# EAGLE library part EDSTLZ-9 (library con-ost)
ON-SHORE
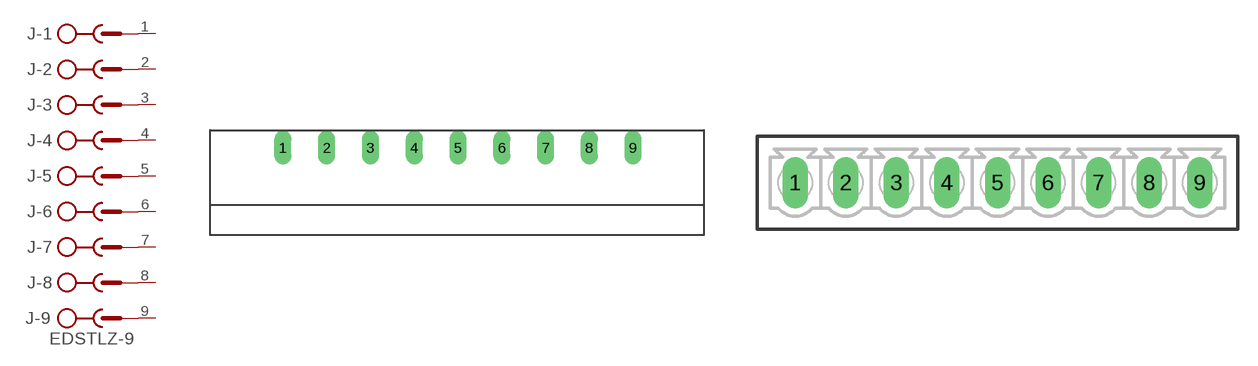
[diagram p3: symbol with the pads of 951-9; footprints 951-9, 1555-9]

Designator prefix J; gates -1=SK -2=SK -3=SK -4=SK -5=SK -6=SK -7=SK -8=SK -9=SKV

## EDSTLZ-9-951  [951-9]
1  -1:SK  pas
2  -2:SK  pas
3  -3:SK  pas
4  -4:SK  pas
5  -5:SK  pas
6  -6:SK  pas
7  -7:SK  pas
8  -8:SK  pas
9  -9:SK  pas

## EDSTLZ-9-1555  [1555-9]
Pads as for 951-9

## EDSTLZ-9-956-9  [956-9]
Pads as for 951-9

## Footprint 951-9 (pad centres in mm)
Connector Right Angle pitch 0.2" (5 mm)
drill 1.27 pad 1.93 long: 1 -20,0; 2 -15,0; 3 -10,0; 4 -5,0; 5 0,0; 6 5,0; 7 10,0; 8 15,0; 9 20,0

## Footprint 1555-9 (pad centres in mm)
Connector Vertical pitch 0.15" (3.81 mm)
drill 1.27 pad 1.93 long: 1 -15.24,0; 2 -11.43,0; 3 -7.62,0; 4 -3.81,0; 5 0,0; 6 3.81,0; 7 7.62,0; 8 11.43,0; 9 15.24,0

## Footprint 956-9 (pad centres in mm)
Connector Vertical pitch 0.2" (5 mm)
drill 1.27 pad 1.93 long: 1 -20,0; 2 -15,0; 3 -10,0; 4 -5,0; 5 0,0; 6 5,0; 7 10,0; 8 15,0; 9 20,0